# Altium schematic symbol library WA-BCMC.SchLib: 6 symbols
Pins are listed as number, name and electrical type; pins without a type are passive.

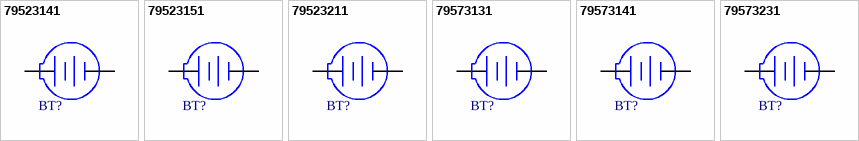
[diagram p0: symbols 79523141 to 79573231]

## 79523141
designator BT?  (value not drawn)
WA-BCMC Battery Holder, SMT, battery type 2016,2020,2025,2032; Manufacturer: Wurth Elektronik; Manufacturer Part Number: 79523141; Category: Battery Holders; Match Code: WA-BCMC; ComponentLink1Description: Website Link; ComponentLink1URL: https://www.we-online.com/redexpert/article/79523141?ad; ComponentLink2Description: Datasheet Link; ComponentLink2URL: https://www.we-online.com/redexpert/spec/79523141?ad; Mount: Surface Mount; Operating Temperature Max: 85°C; Operating Temperature Min: -30°C; Packaging: Tape and Reel; Battery Type: 2016,2020,2025,2032
footprint 79523141
pins: 1 +, 2 -

## 79523151
designator BT?  (value not drawn)
WA-BCMC Battery Holder, SMT, battery type 2025,2032; Manufacturer: Wurth Elektronik; Manufacturer Part Number: 79523151; Category: Battery Holders; Match Code: WA-BCMC; ComponentLink1Description: Website Link; ComponentLink1URL: https://www.we-online.com/redexpert/article/79523151?ad; ComponentLink2Description: Datasheet Link; ComponentLink2URL: https://www.we-online.com/redexpert/spec/79523151?ad; Mount: Surface Mount; Operating Temperature Max: 85°C; Operating Temperature Min: -30°C; Packaging: Tape and Reel; Battery Type: 2025,2032
footprint 79523151
pins: 1 +, 2 -

## 79523211
designator BT?  (value not drawn)
WA-BCMC Battery Holder, THT, battery type 2016,2020,2025,2032; Manufacturer: Wurth Elektronik; Manufacturer Part Number: 79523211; Category: Battery Holders; Match Code: WA-BCMC; ComponentLink1Description: Website Link; ComponentLink1URL: https://www.we-online.com/redexpert/article/79523211?ad; ComponentLink2Description: Datasheet Link; ComponentLink2URL: https://www.we-online.com/redexpert/spec/79523211?ad; Mount: Through Hole; Operating Temperature Max: 85°C; Operating Temperature Min: -30°C; Packaging: Bag; Battery Type: 2016,2020,2025,2032
footprint 79523211
pins: 1 +, 2 -

## 79573131
designator BT?  (value not drawn)
WA-BCMC Battery Holder, SMT, battery type 2430; Manufacturer: Wurth Elektronik; Battery Type: 2430; Manufacturer Part Number: 79573131; Category: Battery Holders; Match Code: WA-BCMC; ComponentLink1Description: Website Link; ComponentLink1URL: https://www.we-online.com/redexpert/article/79573131?ad; ComponentLink2Description: Datasheet Link; ComponentLink2URL: https://www.we-online.com/redexpert/spec/79573131?ad; Mount: Surface Mount; Operating Temperature Max: 85°C; Operating Temperature Min: -30°C; Packaging: Bag
footprint 79573131
pins: 1 +, 2 -

## 79573141
designator BT?  (value not drawn)
WA-BCMC Battery Holder, SMT, battery type 2430; Manufacturer: Wurth Elektronik; Battery Type: 2430; Manufacturer Part Number: 79573141; Category: Battery Holders; Match Code: WA-BCMC; ComponentLink1Description: Website Link; ComponentLink1URL: https://www.we-online.com/redexpert/article/79573141?ad; ComponentLink2Description: Datasheet Link; ComponentLink2URL: https://www.we-online.com/redexpert/spec/79573141?ad; Mount: Surface Mount; Operating Temperature Max: 85°C; Operating Temperature Min: -30°C; Packaging: Tape and Reel
footprint 79573141
pins: 1 +, 2 -

## 79573231
designator BT?  (value not drawn)
WA-BCMC Battery Holder, THT, battery type 2430; Manufacturer: Wurth Elektronik; Battery Type: 2430; Manufacturer Part Number: 79573231; Category: Battery Holders; Match Code: WA-BCMC; ComponentLink1Description: Website Link; ComponentLink1URL: https://www.we-online.com/redexpert/article/79573231?ad; ComponentLink2Description: Datasheet Link; ComponentLink2URL: https://www.we-online.com/redexpert/spec/79573231?ad; Mount: Through Hole; Operating Temperature Max: 85°C; Operating Temperature Min: -30°C; Packaging: Bag
footprint 79573231
pins: 1 +, 2 -